# EAGLE library part RECT_2X3A (library dsantoro-conn)
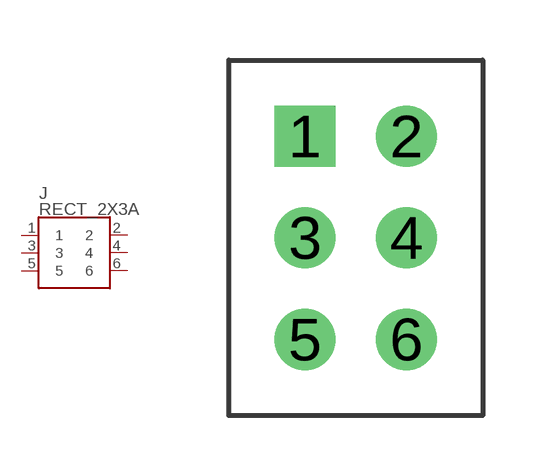
[diagram p16: symbol with the pads of RECT_2X3_0.1; footprint RECT_2X3_0.1]

Designator prefix J

## RECT_2X3A  [RECT_2X3_0.1]
1  1
2  2
3  3
4  4
5  5
6  6

## Footprint RECT_2X3_0.1 (pad centres in mm)
drill 1.02 square: 1 0,0
drill 1.02: 2 2.54,0; 3 0,-2.54; 4 2.54,-2.54; 5 0,-5.08; 6 2.54,-5.08